# Altium schematic symbol library WE-PD.SchLib: 360 symbols (part 2 of 7)
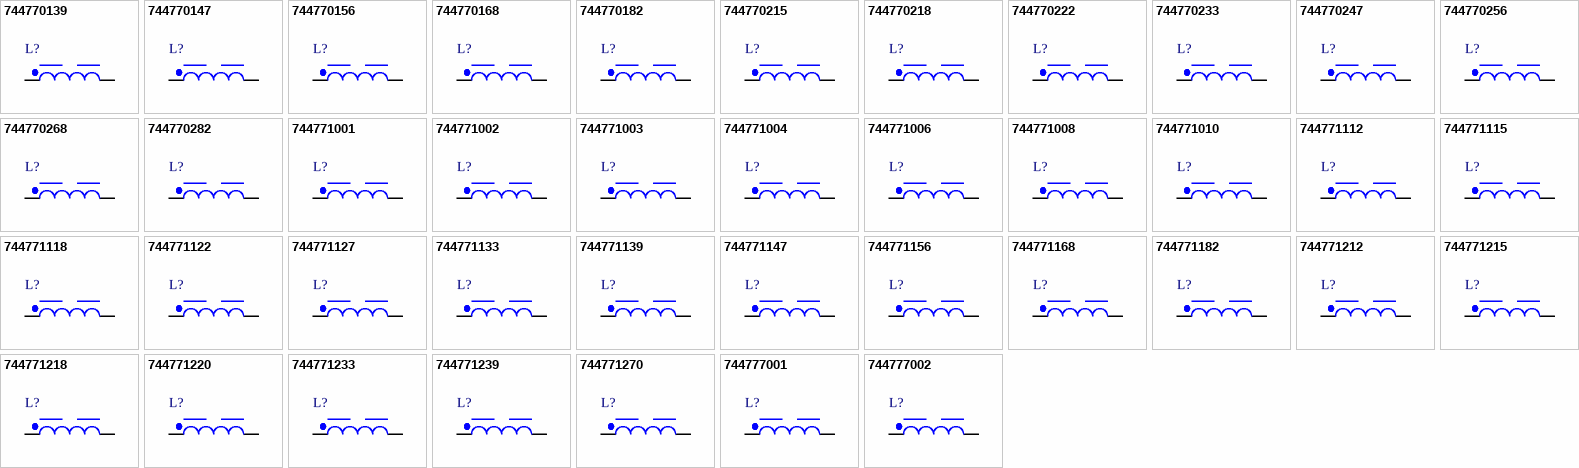
[diagram p9: symbols 744770139 to 744777002]

## 744771003
designator L?, comment 3.5 μH, 9.25 A  (value not drawn)
WE-PD SMT Power Inductor, size 1260, 3.5 μH, 9.25 A, 8 mΩ; Manufacturer Part Number: 744771003; Manufacturer: Wurth Elektronik; Case/Size Code: 1260; DC Resistance: 5.5 mΩ; DC Resistance Max: 8 mΩ; Inductance: 3.5 μH; Rated Current: 9.25 A; Saturation Current: 9.5 A; Self Resonant Frequency: 40 MHz; Type: Standard; Category: Power Inductors; Match Code: WE-PD; ComponentLink1Description: Website Link; ComponentLink1URL: https://www.we-online.com/redexpert/article/744771003?ad; ComponentLink2Description: Datasheet Link; ComponentLink2URL: https://www.we-online.com/redexpert/spec/744771003?ad; Mount: Surface Mount; Min Operating Temperature: -40 °C; Max Operating Temperature: 125 °C; Packaging: Tape and Reel; Length: 12 mm; Width: 12 mm; Height: 6 mm
footprint WE-PD_1260
simulation model 1260_744771003_3.5u
pins: 1, 2

## 744771004
designator L?, comment 4.7 μH, 8.25 A  (value not drawn)
WE-PD SMT Power Inductor, size 1260, 4.7 μH, 8.25 A, 11 mΩ; Manufacturer Part Number: 744771004; Manufacturer: Wurth Elektronik; Case/Size Code: 1260; DC Resistance: 8.5 mΩ; DC Resistance Max: 11 mΩ; Inductance: 4.7 μH; Rated Current: 8.25 A; Self Resonant Frequency: 35 MHz; Type: Standard; Category: Power Inductors; Match Code: WE-PD; ComponentLink1Description: Website Link; ComponentLink1URL: https://www.we-online.com/redexpert/article/744771004?ad; ComponentLink2Description: Datasheet Link; ComponentLink2URL: https://www.we-online.com/redexpert/spec/744771004?ad; Mount: Surface Mount; Min Operating Temperature: -40 °C; Max Operating Temperature: 125 °C; Packaging: Tape and Reel; Length: 12 mm; Width: 12 mm; Height: 6 mm; Saturation Current: 8.25 A
footprint WE-PD_1260
simulation model 1260_744771004_4.7u
pins: 1, 2

## 744771006
designator L?, comment 6.8 μH, 6.3 A  (value not drawn)
WE-PD SMT Power Inductor, size 1260, 6.8 μH, 6.3 A, 18 mΩ; Manufacturer Part Number: 744771006; Manufacturer: Wurth Elektronik; Case/Size Code: 1260; DC Resistance: 14 mΩ; DC Resistance Max: 18 mΩ; Inductance: 6.8 μH; Rated Current: 6.3 A; Saturation Current: 6.5 A; Self Resonant Frequency: 27 MHz; Type: Standard; Category: Power Inductors; Match Code: WE-PD; ComponentLink1Description: Website Link; ComponentLink1URL: https://www.we-online.com/redexpert/article/744771006?ad; ComponentLink2Description: Datasheet Link; ComponentLink2URL: https://www.we-online.com/redexpert/spec/744771006?ad; Mount: Surface Mount; Min Operating Temperature: -40 °C; Max Operating Temperature: 125 °C; Packaging: Tape and Reel; Length: 12 mm; Width: 12 mm; Height: 6 mm
footprint WE-PD_1260
simulation model 1260_744771006_6.8u
pins: 1, 2

## 744771008
designator L?, comment 8.2 μH, 6.2 A  (value not drawn)
WE-PD SMT Power Inductor, size 1260, 8.2 μH, 6.2 A, 20 mΩ; Manufacturer Part Number: 744771008; Manufacturer: Wurth Elektronik; Case/Size Code: 1260; DC Resistance: 15.5 mΩ; DC Resistance Max: 20 mΩ; Inductance: 8.2 μH; Rated Current: 6.2 A; Self Resonant Frequency: 25 MHz; Type: Standard; Category: Power Inductors; Match Code: WE-PD; ComponentLink1Description: Website Link; ComponentLink1URL: https://www.we-online.com/redexpert/article/744771008?ad; ComponentLink2Description: Datasheet Link; ComponentLink2URL: https://www.we-online.com/redexpert/spec/744771008?ad; Mount: Surface Mount; Min Operating Temperature: -40 °C; Max Operating Temperature: 125 °C; Packaging: Tape and Reel; Length: 12 mm; Width: 12 mm; Height: 6 mm; Saturation Current: 6.2 A
footprint WE-PD_1260
simulation model 1260_744771008_8.2u
pins: 1, 2

## 744771010
designator L?, comment 1 μH, 14 A  (value not drawn)
WE-PD SMT Power Inductor, size 1260, 1 μH, 14 A, 5 mΩ; Manufacturer Part Number: 744771010; Manufacturer: Wurth Elektronik; Case/Size Code: 1260; DC Resistance: 3 mΩ; DC Resistance Max: 5 mΩ; Inductance: 1 μH; Rated Current: 14 A; Saturation Current: 15.6 A; Self Resonant Frequency: 88 MHz; Category: Power Inductors; Match Code: WE-PD; ComponentLink1Description: Website Link; ComponentLink1URL: https://www.we-online.com/redexpert/article/744771010?ad; ComponentLink2Description: Datasheet Link; ComponentLink2URL: https://www.we-online.com/redexpert/spec/744771010?ad; Mount: Surface Mount; Min Operating Temperature: -40 °C; Max Operating Temperature: 125 °C; Packaging: Tape and Reel; Length: 12 mm; Width: 12 mm; Height: 6 mm
footprint WE-PD_1260
simulation model 1260_744771010_1u
pins: 1, 2

## 744771112
designator L?, comment 12 μH, 4.5 A  (value not drawn)
WE-PD SMT Power Inductor, size 1260, 12 μH, 4.5 A, 26 mΩ; Manufacturer Part Number: 744771112; Manufacturer: Wurth Elektronik; Case/Size Code: 1260; DC Resistance: 20 mΩ; DC Resistance Max: 26 mΩ; Inductance: 12 μH; Rated Current: 4.5 A; Saturation Current: 4.9 A; Self Resonant Frequency: 19.7 MHz; Type: Standard; Category: Power Inductors; Match Code: WE-PD; ComponentLink1Description: Website Link; ComponentLink1URL: https://www.we-online.com/redexpert/article/744771112?ad; ComponentLink2Description: Datasheet Link; ComponentLink2URL: https://www.we-online.com/redexpert/spec/744771112?ad; Mount: Surface Mount; Min Operating Temperature: -40 °C; Max Operating Temperature: 125 °C; Packaging: Tape and Reel; Length: 12 mm; Width: 12 mm; Height: 6 mm
footprint WE-PD_1260
simulation model 1260_744771112_12u
pins: 1, 2

## 744771115
designator L?, comment 15 μH, 4.2 A  (value not drawn)
WE-PD SMT Power Inductor, size 1260, 15 μH, 4.2 A, 28 mΩ; Manufacturer Part Number: 744771115; Manufacturer: Wurth Elektronik; Case/Size Code: 1260; DC Resistance: 22 mΩ; DC Resistance Max: 28 mΩ; Inductance: 15 μH; Rated Current: 4.2 A; Saturation Current: 4.5 A; Self Resonant Frequency: 16.6 MHz; Type: Standard; Category: Power Inductors; Match Code: WE-PD; ComponentLink1Description: Website Link; ComponentLink1URL: https://www.we-online.com/redexpert/article/744771115?ad; ComponentLink2Description: Datasheet Link; ComponentLink2URL: https://www.we-online.com/redexpert/spec/744771115?ad; Mount: Surface Mount; Min Operating Temperature: -40 °C; Max Operating Temperature: 125 °C; Packaging: Tape and Reel; Length: 12 mm; Width: 12 mm; Height: 6 mm
footprint WE-PD_1260
simulation model 1260_744771115_15u
pins: 1, 2

## 744771118
designator L?, comment 18 μH, 4 A  (value not drawn)
WE-PD SMT Power Inductor, size 1260, 18 μH, 4 A, 30 mΩ; Manufacturer Part Number: 744771118; Manufacturer: Wurth Elektronik; Case/Size Code: 1260; DC Resistance: 24 mΩ; DC Resistance Max: 30 mΩ; Inductance: 18 μH; Rated Current: 4 A; Saturation Current: 4.2 A; Self Resonant Frequency: 15 MHz; Type: Standard; Category: Power Inductors; Match Code: WE-PD; ComponentLink1Description: Website Link; ComponentLink1URL: https://www.we-online.com/redexpert/article/744771118?ad; ComponentLink2Description: Datasheet Link; ComponentLink2URL: https://www.we-online.com/redexpert/spec/744771118?ad; Mount: Surface Mount; Min Operating Temperature: -40 °C; Max Operating Temperature: 125 °C; Packaging: Tape and Reel; Length: 12 mm; Width: 12 mm; Height: 6 mm
footprint WE-PD_1260
simulation model 1260_744771118_18u
pins: 1, 2

## 744771122
designator L?, comment 22 μH, 3.5 A  (value not drawn)
WE-PD SMT Power Inductor, size 1260, 22 μH, 3.5 A, 36 mΩ; Manufacturer Part Number: 744771122; Manufacturer: Wurth Elektronik; Case/Size Code: 1260; DC Resistance: 30 mΩ; DC Resistance Max: 36 mΩ; Inductance: 22 μH; Rated Current: 3.5 A; Saturation Current: 3.7 A; Self Resonant Frequency: 13.5 MHz; Type: Standard; Category: Power Inductors; Match Code: WE-PD; ComponentLink1Description: Website Link; ComponentLink1URL: https://www.we-online.com/redexpert/article/744771122?ad; ComponentLink2Description: Datasheet Link; ComponentLink2URL: https://www.we-online.com/redexpert/spec/744771122?ad; Mount: Surface Mount; Min Operating Temperature: -40 °C; Max Operating Temperature: 125 °C; Packaging: Tape and Reel; Length: 12 mm; Width: 12 mm; Height: 6 mm
footprint WE-PD_1260
simulation model 1260_744771122_22u
pins: 1, 2

## 744771127
designator L?, comment 27 μH, 3.3 A  (value not drawn)
WE-PD SMT Power Inductor, size 1260, 27 μH, 3.3 A, 45 mΩ; Manufacturer Part Number: 744771127; Manufacturer: Wurth Elektronik; Case/Size Code: 1260; DC Resistance: 37 mΩ; DC Resistance Max: 45 mΩ; Inductance: 27 μH; Rated Current: 3.3 A; Saturation Current: 3.5 A; Self Resonant Frequency: 12 MHz; Type: Standard; Category: Power Inductors; Match Code: WE-PD; ComponentLink1Description: Website Link; ComponentLink1URL: https://www.we-online.com/redexpert/article/744771127?ad; ComponentLink2Description: Datasheet Link; ComponentLink2URL: https://www.we-online.com/redexpert/spec/744771127?ad; Mount: Surface Mount; Min Operating Temperature: -40 °C; Max Operating Temperature: 125 °C; Packaging: Tape and Reel; Length: 12 mm; Width: 12 mm; Height: 6 mm
footprint WE-PD_1260
simulation model 1260_744771127_27u
pins: 1, 2

## 744771133
designator L?, comment 33 μH, 2.8 A  (value not drawn)
WE-PD SMT Power Inductor, size 1260, 33 μH, 2.8 A, 57 mΩ; Manufacturer Part Number: 744771133; Manufacturer: Wurth Elektronik; Case/Size Code: 1260; DC Resistance: 49 mΩ; DC Resistance Max: 57 mΩ; Inductance: 33 μH; Rated Current: 2.8 A; Saturation Current: 3 A; Self Resonant Frequency: 11 MHz; Type: Standard; Category: Power Inductors; Match Code: WE-PD; ComponentLink1Description: Website Link; ComponentLink1URL: https://www.we-online.com/redexpert/article/744771133?ad; ComponentLink2Description: Datasheet Link; ComponentLink2URL: https://www.we-online.com/redexpert/spec/744771133?ad; Mount: Surface Mount; Min Operating Temperature: -40 °C; Max Operating Temperature: 125 °C; Packaging: Tape and Reel; Length: 12 mm; Width: 12 mm; Height: 6 mm
footprint WE-PD_1260
simulation model 1260_744771133_33u
pins: 1, 2

## 744771139
designator L?, comment 39 μH, 2.5 A  (value not drawn)
WE-PD SMT Power Inductor, size 1260, 39 μH, 2.5 A, 68 mΩ; Manufacturer Part Number: 744771139; Manufacturer: Wurth Elektronik; Case/Size Code: 1260; DC Resistance: 57 mΩ; DC Resistance Max: 68 mΩ; Inductance: 39 μH; Rated Current: 2.5 A; Saturation Current: 2.7 A; Self Resonant Frequency: 10 MHz; Type: Standard; Category: Power Inductors; Match Code: WE-PD; ComponentLink1Description: Website Link; ComponentLink1URL: https://www.we-online.com/redexpert/article/744771139?ad; ComponentLink2Description: Datasheet Link; ComponentLink2URL: https://www.we-online.com/redexpert/spec/744771139?ad; Mount: Surface Mount; Min Operating Temperature: -40 °C; Max Operating Temperature: 125 °C; Packaging: Tape and Reel; Length: 12 mm; Width: 12 mm; Height: 6 mm
footprint WE-PD_1260
simulation model 1260_744771139_39u
pins: 1, 2

## 744771147
designator L?, comment 47 μH, 2.4 A  (value not drawn)
WE-PD SMT Power Inductor, size 1260, 47 μH, 2.4 A, 77 mΩ; Manufacturer Part Number: 744771147; Manufacturer: Wurth Elektronik; Case/Size Code: 1260; DC Resistance: 64 mΩ; DC Resistance Max: 77 mΩ; Inductance: 47 μH; Rated Current: 2.4 A; Saturation Current: 2.6 A; Self Resonant Frequency: 9.2 MHz; Type: Standard; Category: Power Inductors; Match Code: WE-PD; ComponentLink1Description: Website Link; ComponentLink1URL: https://www.we-online.com/redexpert/article/744771147?ad; ComponentLink2Description: Datasheet Link; ComponentLink2URL: https://www.we-online.com/redexpert/spec/744771147?ad; Mount: Surface Mount; Min Operating Temperature: -40 °C; Max Operating Temperature: 125 °C; Packaging: Tape and Reel; Length: 12 mm; Width: 12 mm; Height: 6 mm
footprint WE-PD_1260
simulation model 1260_744771147_47u
pins: 1, 2

## 744771156
designator L?, comment 56 μH, 2.1 A  (value not drawn)
WE-PD SMT Power Inductor, size 1260, 56 μH, 2.1 A, 92 mΩ; Manufacturer Part Number: 744771156; Manufacturer: Wurth Elektronik; Case/Size Code: 1260; DC Resistance: 77 mΩ; DC Resistance Max: 92 mΩ; Inductance: 56 μH; Rated Current: 2.1 A; Saturation Current: 2.3 A; Self Resonant Frequency: 8 MHz; Type: Standard; Category: Power Inductors; Match Code: WE-PD; ComponentLink1Description: Website Link; ComponentLink1URL: https://www.we-online.com/redexpert/article/744771156?ad; ComponentLink2Description: Datasheet Link; ComponentLink2URL: https://www.we-online.com/redexpert/spec/744771156?ad; Mount: Surface Mount; Min Operating Temperature: -40 °C; Max Operating Temperature: 125 °C; Packaging: Tape and Reel; Length: 12 mm; Width: 12 mm; Height: 6 mm
footprint WE-PD_1260
simulation model 1260_744771156_56u
pins: 1, 2

## 744771168
designator L?, comment 68 μH, 2 A  (value not drawn)
WE-PD SMT Power Inductor, size 1260, 68 μH, 2 A, 105 mΩ; Manufacturer Part Number: 744771168; Manufacturer: Wurth Elektronik; Case/Size Code: 1260; DC Resistance: 86 mΩ; DC Resistance Max: 105 mΩ; Inductance: 68 μH; Rated Current: 2 A; Saturation Current: 2.2 A; Self Resonant Frequency: 7.6 MHz; Type: Standard; Category: Power Inductors; Match Code: WE-PD; ComponentLink1Description: Website Link; ComponentLink1URL: https://www.we-online.com/redexpert/article/744771168?ad; ComponentLink2Description: Datasheet Link; ComponentLink2URL: https://www.we-online.com/redexpert/spec/744771168?ad; Mount: Surface Mount; Min Operating Temperature: -40 °C; Max Operating Temperature: 125 °C; Packaging: Tape and Reel; Length: 12 mm; Width: 12 mm; Height: 6 mm
footprint WE-PD_1260
simulation model 1260_744771168_68u
pins: 1, 2

## 744771182
designator L?, comment 82 μH, 1.8 A  (value not drawn)
WE-PD SMT Power Inductor, size 1260, 82 μH, 1.8 A, 135 mΩ; Manufacturer Part Number: 744771182; Manufacturer: Wurth Elektronik; Case/Size Code: 1260; DC Resistance: 112 mΩ; DC Resistance Max: 135 mΩ; Inductance: 82 μH; Rated Current: 1.8 A; Saturation Current: 1.9 A; Self Resonant Frequency: 7.2 MHz; Type: Standard; Category: Power Inductors; Match Code: WE-PD; ComponentLink1Description: Website Link; ComponentLink1URL: https://www.we-online.com/redexpert/article/744771182?ad; ComponentLink2Description: Datasheet Link; ComponentLink2URL: https://www.we-online.com/redexpert/spec/744771182?ad; Mount: Surface Mount; Min Operating Temperature: -40 °C; Max Operating Temperature: 125 °C; Packaging: Tape and Reel; Length: 12 mm; Width: 12 mm; Height: 6 mm
footprint WE-PD_1260
simulation model 1260_744771182_82u
pins: 1, 2

## 744771212
designator L?, comment 120 μH, 1.5 A  (value not drawn)
WE-PD SMT Power Inductor, size 1260, 120 μH, 1.5 A, 180 mΩ; Manufacturer Part Number: 744771212; Manufacturer: Wurth Elektronik; Case/Size Code: 1260; DC Resistance: 150 mΩ; DC Resistance Max: 180 mΩ; Inductance: 120 μH; Rated Current: 1.5 A; Saturation Current: 1.6 A; Self Resonant Frequency: 5.2 MHz; Type: Standard; Category: Power Inductors; Match Code: WE-PD; ComponentLink1Description: Website Link; ComponentLink1URL: https://www.we-online.com/redexpert/article/744771212?ad; ComponentLink2Description: Datasheet Link; ComponentLink2URL: https://www.we-online.com/redexpert/spec/744771212?ad; Mount: Surface Mount; Min Operating Temperature: -40 °C; Max Operating Temperature: 125 °C; Packaging: Tape and Reel; Length: 12 mm; Width: 12 mm; Height: 6 mm
footprint WE-PD_1260
simulation model 1260_744771212_120u
pins: 1, 2

## 744771215
designator L?, comment 150 μH, 1.3 A  (value not drawn)
WE-PD SMT Power Inductor, size 1260, 150 μH, 1.3 A, 220 mΩ; Manufacturer Part Number: 744771215; Manufacturer: Wurth Elektronik; Case/Size Code: 1260; DC Resistance: 185 mΩ; DC Resistance Max: 220 mΩ; Inductance: 150 μH; Rated Current: 1.3 A; Saturation Current: 1.45 A; Self Resonant Frequency: 4.4 MHz; Type: Standard; Category: Power Inductors; Match Code: WE-PD; ComponentLink1Description: Website Link; ComponentLink1URL: https://www.we-online.com/redexpert/article/744771215?ad; ComponentLink2Description: Datasheet Link; ComponentLink2URL: https://www.we-online.com/redexpert/spec/744771215?ad; Mount: Surface Mount; Min Operating Temperature: -40 °C; Max Operating Temperature: 125 °C; Packaging: Tape and Reel; Length: 12 mm; Width: 12 mm; Height: 6 mm
footprint WE-PD_1260
simulation model 1260_744771215_150u
pins: 1, 2

## 744771218
designator L?, comment 180 μH, 1.15 A  (value not drawn)
WE-PD SMT Power Inductor, size 1260, 180 μH, 1.15 A, 280 mΩ; Manufacturer Part Number: 744771218; Manufacturer: Wurth Elektronik; Case/Size Code: 1260; DC Resistance: 230 mΩ; DC Resistance Max: 280 mΩ; Inductance: 180 μH; Rated Current: 1.15 A; Saturation Current: 1.25 A; Self Resonant Frequency: 4.1 MHz; Type: Standard; Category: Power Inductors; Match Code: WE-PD; ComponentLink1Description: Website Link; ComponentLink1URL: https://www.we-online.com/redexpert/article/744771218?ad; ComponentLink2Description: Datasheet Link; ComponentLink2URL: https://www.we-online.com/redexpert/spec/744771218?ad; Mount: Surface Mount; Min Operating Temperature: -40 °C; Max Operating Temperature: 125 °C; Packaging: Tape and Reel; Length: 12 mm; Width: 12 mm; Height: 6 mm
footprint WE-PD_1260
simulation model 1260_744771218_180u
pins: 1, 2

## 744771220
designator L?, comment 220 μH, 1.1 A  (value not drawn)
WE-PD SMT Power Inductor, size 1260, 220 μH, 1.1 A, 340 mΩ; Manufacturer Part Number: 744771220; Manufacturer: Wurth Elektronik; Case/Size Code: 1260; DC Resistance: 280 mΩ; DC Resistance Max: 340 mΩ; Inductance: 220 μH; Rated Current: 1.1 A; Saturation Current: 1.2 A; Self Resonant Frequency: 3.8 MHz; Type: Standard; Category: Power Inductors; Match Code: WE-PD; ComponentLink1Description: Website Link; ComponentLink1URL: https://www.we-online.com/redexpert/article/744771220?ad; ComponentLink2Description: Datasheet Link; ComponentLink2URL: https://www.we-online.com/redexpert/spec/744771220?ad; Mount: Surface Mount; Min Operating Temperature: -40 °C; Max Operating Temperature: 125 °C; Packaging: Tape and Reel; Length: 12 mm; Width: 12 mm; Height: 6 mm
footprint WE-PD_1260
simulation model 1260_744771220_220u
pins: 1, 2

## 744771233
designator L?, comment 330 μH, 0.85 A  (value not drawn)
WE-PD SMT Power Inductor, size 1260, 330 μH, 0.85 A, 490 mΩ; Manufacturer Part Number: 744771233; Manufacturer: Wurth Elektronik; Case/Size Code: 1260; DC Resistance: 410 mΩ; DC Resistance Max: 490 mΩ; Inductance: 330 μH; Rated Current: 0.85 A; Saturation Current: 0.97 A; Self Resonant Frequency: 3 MHz; Type: Standard; Category: Power Inductors; Match Code: WE-PD; ComponentLink1Description: Website Link; ComponentLink1URL: https://www.we-online.com/redexpert/article/744771233?ad; ComponentLink2Description: Datasheet Link; ComponentLink2URL: https://www.we-online.com/redexpert/spec/744771233?ad; Mount: Surface Mount; Min Operating Temperature: -40 °C; Max Operating Temperature: 125 °C; Packaging: Tape and Reel; Length: 12 mm; Width: 12 mm; Height: 6 mm
footprint WE-PD_1260
simulation model 1260_744771233_330u
pins: 1, 2

## 744771239
designator L?, comment 390 μH, 0.75 A  (value not drawn)
WE-PD SMT Power Inductor, size 1260, 390 μH, 0.75 A, 640 mΩ; Manufacturer Part Number: 744771239; Manufacturer: Wurth Elektronik; Case/Size Code: 1260; DC Resistance: 540 mΩ; DC Resistance Max: 640 mΩ; Inductance: 390 μH; Rated Current: 0.75 A; Saturation Current: 0.85 A; Self Resonant Frequency: 2.8 MHz; Type: Standard; Category: Power Inductors; Match Code: WE-PD; ComponentLink1Description: Website Link; ComponentLink1URL: https://www.we-online.com/redexpert/article/744771239?ad; ComponentLink2Description: Datasheet Link; ComponentLink2URL: https://www.we-online.com/redexpert/spec/744771239?ad; Mount: Surface Mount; Min Operating Temperature: -40 °C; Max Operating Temperature: 125 °C; Packaging: Tape and Reel; Length: 12 mm; Width: 12 mm; Height: 6 mm
footprint WE-PD_1260
simulation model 1260_744771239_390u
pins: 1, 2

## 744771270
designator L?, comment 270 μH, 0.9 A  (value not drawn)
WE-PD SMT Power Inductor, size 1260, 270 μH, 0.9 A, 400 mΩ; Manufacturer Part Number: 744771270; Manufacturer: Wurth Elektronik; Case/Size Code: 1260; DC Resistance: 330 mΩ; DC Resistance Max: 400 mΩ; Inductance: 270 μH; Rated Current: 0.9 A; Saturation Current: 1 A; Self Resonant Frequency: 3.4 MHz; Type: Standard; Category: Power Inductors; Match Code: WE-PD; ComponentLink1Description: Website Link; ComponentLink1URL: https://www.we-online.com/redexpert/article/744771270?ad; ComponentLink2Description: Datasheet Link; ComponentLink2URL: https://www.we-online.com/redexpert/spec/744771270?ad; Mount: Surface Mount; Min Operating Temperature: -40 °C; Max Operating Temperature: 125 °C; Packaging: Tape and Reel; Length: 12 mm; Width: 12 mm; Height: 6 mm
footprint WE-PD_1260
simulation model 1260_744771270_270u
pins: 1, 2

## 744777001
designator L?, comment 1 μH, 6.84 A  (value not drawn)
WE-PD SMT Power Inductor, size 7345, 1 μH, 6.84 A, 10 mΩ; Manufacturer Part Number: 744777001; Manufacturer: Wurth Elektronik; Case/Size Code: 7345; DC Resistance: 8.4 mΩ; DC Resistance Max: 10 mΩ; Inductance: 1 μH; Rated Current: 6.84 A; Saturation Current: 10.2 A; Self Resonant Frequency: 100 MHz; Type: Standard; Category: Power Inductors; Match Code: WE-PD; ComponentLink1Description: Website Link; ComponentLink1URL: https://www.we-online.com/redexpert/article/744777001?ad; ComponentLink2Description: Datasheet Link; ComponentLink2URL: https://www.we-online.com/redexpert/spec/744777001?ad; Mount: Surface Mount; Min Operating Temperature: -40 °C; Max Operating Temperature: 125 °C; Packaging: Tape and Reel; Length: 7.3 mm; Width: 7.3 mm; Height: 4.5 mm
footprint WE-PD_7345
simulation model 7345_744777001_1u
pins: 1, 2

## 744777002
designator L?, comment 2.2 μH, 6 A  (value not drawn)
WE-PD SMT Power Inductor, size 7345, 2.2 μH, 6 A, 20 mΩ; Manufacturer Part Number: 744777002; Manufacturer: Wurth Elektronik; Case/Size Code: 7345; DC Resistance: 13 mΩ; DC Resistance Max: 20 mΩ; Inductance: 2.2 μH; Rated Current: 6 A; Saturation Current: 6.5 A; Self Resonant Frequency: 60 MHz; Type: Standard; Category: Power Inductors; Match Code: WE-PD; ComponentLink1Description: Website Link; ComponentLink1URL: https://www.we-online.com/redexpert/article/744777002?ad; ComponentLink2Description: Datasheet Link; ComponentLink2URL: https://www.we-online.com/redexpert/spec/744777002?ad; Mount: Surface Mount; Min Operating Temperature: -40 °C; Max Operating Temperature: 125 °C; Packaging: Tape and Reel; Length: 7.3 mm; Width: 7.3 mm; Height: 4.5 mm
footprint WE-PD_7345
simulation model 7345_744777002_2.2u
pins: 1, 2

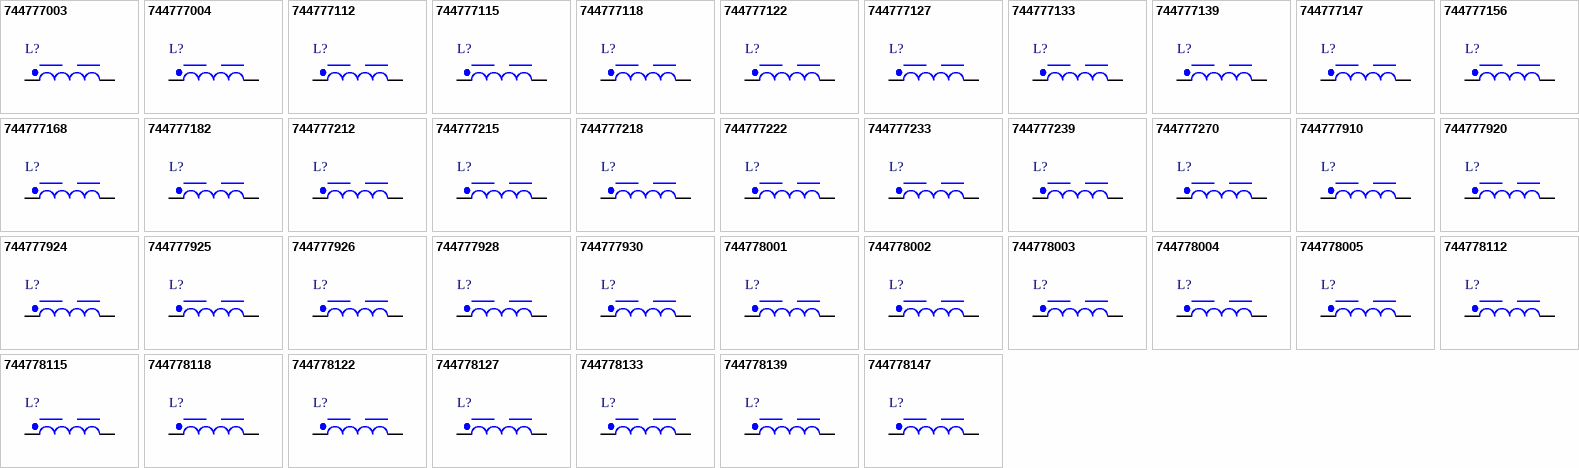
[diagram p2: symbols 744777003 to 744778147]

## 744777003
designator L?, comment 3.3 μH, 3.5 A  (value not drawn)
WE-PD SMT Power Inductor, size 7345, 3.3 μH, 3.5 A, 30 mΩ; Manufacturer Part Number: 744777003; Manufacturer: Wurth Elektronik; Case/Size Code: 7345; DC Resistance: 25 mΩ; DC Resistance Max: 30 mΩ; Inductance: 3.3 μH; Rated Current: 3.5 A; Saturation Current: 4.6 A; Self Resonant Frequency: 55 MHz; Type: Standard; Category: Power Inductors; Match Code: WE-PD; ComponentLink1Description: Website Link; ComponentLink1URL: https://www.we-online.com/redexpert/article/744777003?ad; ComponentLink2Description: Datasheet Link; ComponentLink2URL: https://www.we-online.com/redexpert/spec/744777003?ad; Mount: Surface Mount; Min Operating Temperature: -40 °C; Max Operating Temperature: 125 °C; Packaging: Tape and Reel; Length: 7.3 mm; Width: 7.3 mm; Height: 4.5 mm
footprint WE-PD_7345
simulation model 7345_744777003_3.3u
pins: 1, 2

## 744777004
designator L?, comment 4.7 μH, 3.2 A  (value not drawn)
WE-PD SMT Power Inductor, size 7345, 4.7 μH, 3.2 A, 40 mΩ; Manufacturer Part Number: 744777004; Manufacturer: Wurth Elektronik; Case/Size Code: 7345; DC Resistance: 25 mΩ; DC Resistance Max: 40 mΩ; Inductance: 4.7 μH; Rated Current: 3.2 A; Saturation Current: 4 A; Self Resonant Frequency: 37 MHz; Type: Standard; Category: Power Inductors; Match Code: WE-PD; ComponentLink1Description: Website Link; ComponentLink1URL: https://www.we-online.com/redexpert/article/744777004?ad; ComponentLink2Description: Datasheet Link; ComponentLink2URL: https://www.we-online.com/redexpert/spec/744777004?ad; Mount: Surface Mount; Min Operating Temperature: -40 °C; Max Operating Temperature: 125 °C; Packaging: Tape and Reel; Length: 7.3 mm; Width: 7.3 mm; Height: 4.5 mm
footprint WE-PD_7345
simulation model 7345_744777004_4.7u
pins: 1, 2

## 744777112
designator L?, comment 12 μH, 1.82 A  (value not drawn)
WE-PD SMT Power Inductor, size 7345, 12 μH, 1.82 A, 58 mΩ; Manufacturer Part Number: 744777112; Manufacturer: Wurth Elektronik; Case/Size Code: 7345; DC Resistance: 54 mΩ; DC Resistance Max: 58 mΩ; Inductance: 12 μH; Rated Current: 1.82 A; Saturation Current: 2.4 A; Self Resonant Frequency: 23 MHz; Type: Standard; Category: Power Inductors; Match Code: WE-PD; ComponentLink1Description: Website Link; ComponentLink1URL: https://www.we-online.com/redexpert/article/744777112?ad; ComponentLink2Description: Datasheet Link; ComponentLink2URL: https://www.we-online.com/redexpert/spec/744777112?ad; Mount: Surface Mount; Min Operating Temperature: -40 °C; Max Operating Temperature: 125 °C; Packaging: Tape and Reel; Length: 7.3 mm; Width: 7.3 mm; Height: 4.5 mm
footprint WE-PD_7345
simulation model 7345_744777112_12u
pins: 1, 2

## 744777115
designator L?, comment 15 μH, 1.6 A  (value not drawn)
WE-PD SMT Power Inductor, size 7345, 15 μH, 1.6 A, 81 mΩ; Manufacturer Part Number: 744777115; Manufacturer: Wurth Elektronik; Case/Size Code: 7345; DC Resistance: 70 mΩ; DC Resistance Max: 81 mΩ; Inductance: 15 μH; Rated Current: 1.6 A; Saturation Current: 2.2 A; Self Resonant Frequency: 19.5 MHz; Type: Standard; Category: Power Inductors; Match Code: WE-PD; ComponentLink1Description: Website Link; ComponentLink1URL: https://www.we-online.com/redexpert/article/744777115?ad; ComponentLink2Description: Datasheet Link; ComponentLink2URL: https://www.we-online.com/redexpert/spec/744777115?ad; Mount: Surface Mount; Min Operating Temperature: -40 °C; Max Operating Temperature: 125 °C; Packaging: Tape and Reel; Length: 7.3 mm; Width: 7.3 mm; Height: 4.5 mm
footprint WE-PD_7345
simulation model 7345_744777115_15u
pins: 1, 2

## 744777118
designator L?, comment 18 μH, 1.5 A  (value not drawn)
WE-PD SMT Power Inductor, size 7345, 18 μH, 1.5 A, 91 mΩ; Manufacturer Part Number: 744777118; Manufacturer: Wurth Elektronik; Case/Size Code: 7345; DC Resistance: 80 mΩ; DC Resistance Max: 91 mΩ; Inductance: 18 μH; Rated Current: 1.5 A; Saturation Current: 2.05 A; Self Resonant Frequency: 19 MHz; Type: Standard; Category: Power Inductors; Match Code: WE-PD; ComponentLink1Description: Website Link; ComponentLink1URL: https://www.we-online.com/redexpert/article/744777118?ad; ComponentLink2Description: Datasheet Link; ComponentLink2URL: https://www.we-online.com/redexpert/spec/744777118?ad; Mount: Surface Mount; Min Operating Temperature: -40 °C; Max Operating Temperature: 125 °C; Packaging: Tape and Reel; Length: 7.3 mm; Width: 7.3 mm; Height: 4.5 mm
footprint WE-PD_7345
simulation model 7345_744777118_18u
pins: 1, 2

## 744777122
designator L?, comment 22 μH, 1.41 A  (value not drawn)
WE-PD SMT Power Inductor, size 7345, 22 μH, 1.41 A, 110 mΩ; Manufacturer Part Number: 744777122; Manufacturer: Wurth Elektronik; Case/Size Code: 7345; DC Resistance: 90 mΩ; DC Resistance Max: 110 mΩ; Inductance: 22 μH; Rated Current: 1.41 A; Saturation Current: 1.7 A; Self Resonant Frequency: 17 MHz; Type: Standard; Category: Power Inductors; Match Code: WE-PD; ComponentLink1Description: Website Link; ComponentLink1URL: https://www.we-online.com/redexpert/article/744777122?ad; ComponentLink2Description: Datasheet Link; ComponentLink2URL: https://www.we-online.com/redexpert/spec/744777122?ad; Mount: Surface Mount; Min Operating Temperature: -40 °C; Max Operating Temperature: 125 °C; Packaging: Tape and Reel; Length: 7.3 mm; Width: 7.3 mm; Height: 4.5 mm
footprint WE-PD_7345
simulation model 7345_744777122_22u
pins: 1, 2

## 744777127
designator L?, comment 27 μH, 1.24 A  (value not drawn)
WE-PD SMT Power Inductor, size 7345, 27 μH, 1.24 A, 150 mΩ; Manufacturer Part Number: 744777127; Manufacturer: Wurth Elektronik; Case/Size Code: 7345; DC Resistance: 117 mΩ; DC Resistance Max: 150 mΩ; Inductance: 27 μH; Rated Current: 1.24 A; Saturation Current: 1.55 A; Self Resonant Frequency: 15 MHz; Type: Standard; Category: Power Inductors; Match Code: WE-PD; ComponentLink1Description: Website Link; ComponentLink1URL: https://www.we-online.com/redexpert/article/744777127?ad; ComponentLink2Description: Datasheet Link; ComponentLink2URL: https://www.we-online.com/redexpert/spec/744777127?ad; Mount: Surface Mount; Min Operating Temperature: -40 °C; Max Operating Temperature: 125 °C; Packaging: Tape and Reel; Length: 7.3 mm; Width: 7.3 mm; Height: 4.5 mm
footprint WE-PD_7345
simulation model 7345_744777127_27u
pins: 1, 2

## 744777133
designator L?, comment 33 μH, 1.13 A  (value not drawn)
WE-PD SMT Power Inductor, size 7345, 33 μH, 1.13 A, 170 mΩ; Manufacturer Part Number: 744777133; Manufacturer: Wurth Elektronik; Case/Size Code: 7345; DC Resistance: 140 mΩ; DC Resistance Max: 170 mΩ; Inductance: 33 μH; Rated Current: 1.13 A; Saturation Current: 1.4 A; Self Resonant Frequency: 13 MHz; Type: Standard; Category: Power Inductors; Match Code: WE-PD; ComponentLink1Description: Website Link; ComponentLink1URL: https://www.we-online.com/redexpert/article/744777133?ad; ComponentLink2Description: Datasheet Link; ComponentLink2URL: https://www.we-online.com/redexpert/spec/744777133?ad; Mount: Surface Mount; Min Operating Temperature: -40 °C; Max Operating Temperature: 125 °C; Packaging: Tape and Reel; Length: 7.3 mm; Width: 7.3 mm; Height: 4.5 mm
footprint WE-PD_7345
simulation model 7345_744777133_33u
pins: 1, 2

## 744777139
designator L?, comment 39 μH, 1.11 A  (value not drawn)
WE-PD SMT Power Inductor, size 7345, 39 μH, 1.11 A, 230 mΩ; Manufacturer Part Number: 744777139; Manufacturer: Wurth Elektronik; Case/Size Code: 7345; DC Resistance: 145 mΩ; DC Resistance Max: 230 mΩ; Inductance: 39 μH; Rated Current: 1.11 A; Saturation Current: 1.23 A; Self Resonant Frequency: 12 MHz; Type: Standard; Category: Power Inductors; Match Code: WE-PD; ComponentLink1Description: Website Link; ComponentLink1URL: https://www.we-online.com/redexpert/article/744777139?ad; ComponentLink2Description: Datasheet Link; ComponentLink2URL: https://www.we-online.com/redexpert/spec/744777139?ad; Mount: Surface Mount; Min Operating Temperature: -40 °C; Max Operating Temperature: 125 °C; Packaging: Tape and Reel; Length: 7.3 mm; Width: 7.3 mm; Height: 4.5 mm
footprint WE-PD_7345
simulation model 7345_744777139_39u
pins: 1, 2

## 744777147
designator L?, comment 47 μH, 1.03 A  (value not drawn)
WE-PD SMT Power Inductor, size 7345, 47 μH, 1.03 A, 260 mΩ; Manufacturer Part Number: 744777147; Manufacturer: Wurth Elektronik; Case/Size Code: 7345; DC Resistance: 170 mΩ; DC Resistance Max: 260 mΩ; Inductance: 47 μH; Rated Current: 1.03 A; Saturation Current: 1.1 A; Self Resonant Frequency: 10.5 MHz; Type: Standard; Category: Power Inductors; Match Code: WE-PD; ComponentLink1Description: Website Link; ComponentLink1URL: https://www.we-online.com/redexpert/article/744777147?ad; ComponentLink2Description: Datasheet Link; ComponentLink2URL: https://www.we-online.com/redexpert/spec/744777147?ad; Mount: Surface Mount; Min Operating Temperature: -40 °C; Max Operating Temperature: 125 °C; Packaging: Tape and Reel; Length: 7.3 mm; Width: 7.3 mm; Height: 4.5 mm
footprint WE-PD_7345
simulation model 7345_744777147_47u
pins: 1, 2

## 744777156
designator L?, comment 56 μH, 0.93 A  (value not drawn)
WE-PD SMT Power Inductor, size 7345, 56 μH, 0.93 A, 350 mΩ; Manufacturer Part Number: 744777156; Manufacturer: Wurth Elektronik; Case/Size Code: 7345; DC Resistance: 210 mΩ; DC Resistance Max: 350 mΩ; Inductance: 56 μH; Rated Current: 0.93 A; Saturation Current: 1.05 A; Self Resonant Frequency: 10 MHz; Type: Standard; Category: Power Inductors; Match Code: WE-PD; ComponentLink1Description: Website Link; ComponentLink1URL: https://www.we-online.com/redexpert/article/744777156?ad; ComponentLink2Description: Datasheet Link; ComponentLink2URL: https://www.we-online.com/redexpert/spec/744777156?ad; Mount: Surface Mount; Min Operating Temperature: -40 °C; Max Operating Temperature: 125 °C; Packaging: Tape and Reel; Length: 7.3 mm; Width: 7.3 mm; Height: 4.5 mm
footprint WE-PD_7345
simulation model 7345_744777156_56u
pins: 1, 2

## 744777168
designator L?, comment 68 μH, 0.87 A  (value not drawn)
WE-PD SMT Power Inductor, size 7345, 68 μH, 0.87 A, 380 mΩ; Manufacturer Part Number: 744777168; Manufacturer: Wurth Elektronik; Case/Size Code: 7345; DC Resistance: 240 mΩ; DC Resistance Max: 380 mΩ; Inductance: 68 μH; Rated Current: 0.87 A; Saturation Current: 0.95 A; Self Resonant Frequency: 9 MHz; Type: Standard; Category: Power Inductors; Match Code: WE-PD; ComponentLink1Description: Website Link; ComponentLink1URL: https://www.we-online.com/redexpert/article/744777168?ad; ComponentLink2Description: Datasheet Link; ComponentLink2URL: https://www.we-online.com/redexpert/spec/744777168?ad; Mount: Surface Mount; Min Operating Temperature: -40 °C; Max Operating Temperature: 125 °C; Packaging: Tape and Reel; Length: 7.3 mm; Width: 7.3 mm; Height: 4.5 mm
footprint WE-PD_7345
simulation model 7345_744777168_68u
pins: 1, 2

## 744777182
designator L?, comment 82 μH, 0.84 A  (value not drawn)
WE-PD SMT Power Inductor, size 7345, 82 μH, 0.84 A, 430 mΩ; Manufacturer Part Number: 744777182; Manufacturer: Wurth Elektronik; Case/Size Code: 7345; DC Resistance: 260 mΩ; DC Resistance Max: 430 mΩ; Inductance: 82 μH; Rated Current: 0.84 A; Saturation Current: 0.9 A; Self Resonant Frequency: 8 MHz; Type: Standard; Category: Power Inductors; Match Code: WE-PD; ComponentLink1Description: Website Link; ComponentLink1URL: https://www.we-online.com/redexpert/article/744777182?ad; ComponentLink2Description: Datasheet Link; ComponentLink2URL: https://www.we-online.com/redexpert/spec/744777182?ad; Mount: Surface Mount; Min Operating Temperature: -40 °C; Max Operating Temperature: 125 °C; Packaging: Tape and Reel; Length: 7.3 mm; Width: 7.3 mm; Height: 4.5 mm
footprint WE-PD_7345
simulation model 7345_744777182_82u
pins: 1, 2

## 744777212
designator L?, comment 120 μH, 0.67 A  (value not drawn)
WE-PD SMT Power Inductor, size 7345, 120 μH, 0.67 A, 660 mΩ; Manufacturer Part Number: 744777212; Manufacturer: Wurth Elektronik; Case/Size Code: 7345; DC Resistance: 400 mΩ; DC Resistance Max: 660 mΩ; Inductance: 120 μH; Rated Current: 0.67 A; Saturation Current: 0.7 A; Self Resonant Frequency: 6.7 MHz; Type: Standard; Category: Power Inductors; Match Code: WE-PD; ComponentLink1Description: Website Link; ComponentLink1URL: https://www.we-online.com/redexpert/article/744777212?ad; ComponentLink2Description: Datasheet Link; ComponentLink2URL: https://www.we-online.com/redexpert/spec/744777212?ad; Mount: Surface Mount; Min Operating Temperature: -40 °C; Max Operating Temperature: 125 °C; Packaging: Tape and Reel; Length: 7.3 mm; Width: 7.3 mm; Height: 4.5 mm
footprint WE-PD_7345
simulation model 7345_744777212_120u
pins: 1, 2

## 744777215
designator L?, comment 150 μH, 0.52 A  (value not drawn)
WE-PD SMT Power Inductor, size 7345, 150 μH, 0.52 A, 880 mΩ; Manufacturer Part Number: 744777215; Manufacturer: Wurth Elektronik; Case/Size Code: 7345; DC Resistance: 660 mΩ; DC Resistance Max: 880 mΩ; Inductance: 150 μH; Rated Current: 0.52 A; Saturation Current: 0.63 A; Self Resonant Frequency: 6 MHz; Type: Standard; Category: Power Inductors; Match Code: WE-PD; ComponentLink1Description: Website Link; ComponentLink1URL: https://www.we-online.com/redexpert/article/744777215?ad; ComponentLink2Description: Datasheet Link; ComponentLink2URL: https://www.we-online.com/redexpert/spec/744777215?ad; Mount: Surface Mount; Min Operating Temperature: -40 °C; Max Operating Temperature: 125 °C; Packaging: Tape and Reel; Length: 7.3 mm; Width: 7.3 mm; Height: 4.5 mm
footprint WE-PD_7345
simulation model 7345_744777215_150u
pins: 1, 2

## 744777218
designator L?, comment 180 μH, 0.51 A  (value not drawn)
WE-PD SMT Power Inductor, size 7345, 180 μH, 0.51 A, 980 mΩ; Manufacturer Part Number: 744777218; Manufacturer: Wurth Elektronik; Case/Size Code: 7345; DC Resistance: 680 mΩ; DC Resistance Max: 980 mΩ; Inductance: 180 μH; Rated Current: 0.51 A; Saturation Current: 0.56 A; Self Resonant Frequency: 5.3 MHz; Type: Standard; Category: Power Inductors; Match Code: WE-PD; ComponentLink1Description: Website Link; ComponentLink1URL: https://www.we-online.com/redexpert/article/744777218?ad; ComponentLink2Description: Datasheet Link; ComponentLink2URL: https://www.we-online.com/redexpert/spec/744777218?ad; Mount: Surface Mount; Min Operating Temperature: -40 °C; Max Operating Temperature: 125 °C; Packaging: Tape and Reel; Length: 7.3 mm; Width: 7.3 mm; Height: 4.5 mm
footprint WE-PD_7345
simulation model 7345_744777218_180u
pins: 1, 2

## 744777222
designator L?, comment 220 μH, 0.44 A  (value not drawn)
WE-PD SMT Power Inductor, size 7345, 220 μH, 0.44 A, 1170 mΩ; Manufacturer Part Number: 744777222; Manufacturer: Wurth Elektronik; Case/Size Code: 7345; DC Resistance: 920 mΩ; DC Resistance Max: 1170 mΩ; Inductance: 220 μH; Rated Current: 0.44 A; Saturation Current: 0.54 A; Self Resonant Frequency: 5 MHz; Type: Standard; Category: Power Inductors; Match Code: WE-PD; ComponentLink1Description: Website Link; ComponentLink1URL: https://www.we-online.com/redexpert/article/744777222?ad; ComponentLink2Description: Datasheet Link; ComponentLink2URL: https://www.we-online.com/redexpert/spec/744777222?ad; Mount: Surface Mount; Min Operating Temperature: -40 °C; Max Operating Temperature: 125 °C; Packaging: Tape and Reel; Length: 7.3 mm; Width: 7.3 mm; Height: 4.5 mm
footprint WE-PD_7345
simulation model 7345_744777222_220u
pins: 1, 2

## 744777233
designator L?, comment 330 μH, 0.39 A  (value not drawn)
WE-PD SMT Power Inductor, size 7345, 330 μH, 0.39 A, 1860 mΩ; Manufacturer Part Number: 744777233; Manufacturer: Wurth Elektronik; Case/Size Code: 7345; DC Resistance: 1150 mΩ; DC Resistance Max: 1860 mΩ; Inductance: 330 μH; Rated Current: 0.39 A; Saturation Current: 0.45 A; Self Resonant Frequency: 4 MHz; Type: Standard; Category: Power Inductors; Match Code: WE-PD; ComponentLink1Description: Website Link; ComponentLink1URL: https://www.we-online.com/redexpert/article/744777233?ad; ComponentLink2Description: Datasheet Link; ComponentLink2URL: https://www.we-online.com/redexpert/spec/744777233?ad; Mount: Surface Mount; Min Operating Temperature: -40 °C; Max Operating Temperature: 125 °C; Packaging: Tape and Reel; Length: 7.3 mm; Width: 7.3 mm; Height: 4.5 mm
footprint WE-PD_7345
simulation model 7345_744777233_330u
pins: 1, 2

## 744777239
designator L?, comment 390 μH, 0.38 A  (value not drawn)
WE-PD SMT Power Inductor, size 7345, 390 μH, 0.38 A, 2850 mΩ; Manufacturer Part Number: 744777239; Manufacturer: Wurth Elektronik; Case/Size Code: 7345; DC Resistance: 1250 mΩ; DC Resistance Max: 2850 mΩ; Inductance: 390 μH; Rated Current: 0.38 A; Saturation Current: 0.42 A; Self Resonant Frequency: 3.8 MHz; Type: Standard; Category: Power Inductors; Match Code: WE-PD; ComponentLink1Description: Website Link; ComponentLink1URL: https://www.we-online.com/redexpert/article/744777239?ad; ComponentLink2Description: Datasheet Link; ComponentLink2URL: https://www.we-online.com/redexpert/spec/744777239?ad; Mount: Surface Mount; Min Operating Temperature: -40 °C; Max Operating Temperature: 125 °C; Packaging: Tape and Reel; Length: 7.3 mm; Width: 7.3 mm; Height: 4.5 mm
footprint WE-PD_7345
simulation model 7345_744777239_390u
pins: 1, 2

## 744777270
designator L?, comment 270 μH, 0.43 A  (value not drawn)
WE-PD SMT Power Inductor, size 7345, 270 μH, 0.43 A, 1640 mΩ; Manufacturer Part Number: 744777270; Manufacturer: Wurth Elektronik; Case/Size Code: 7345; DC Resistance: 970 mΩ; DC Resistance Max: 1640 mΩ; Inductance: 270 μH; Rated Current: 0.43 A; Saturation Current: 0.48 A; Self Resonant Frequency: 4.3 MHz; Type: Standard; Category: Power Inductors; Match Code: WE-PD; ComponentLink1Description: Website Link; ComponentLink1URL: https://www.we-online.com/redexpert/article/744777270?ad; ComponentLink2Description: Datasheet Link; ComponentLink2URL: https://www.we-online.com/redexpert/spec/744777270?ad; Mount: Surface Mount; Min Operating Temperature: -40 °C; Max Operating Temperature: 125 °C; Packaging: Tape and Reel; Length: 7.3 mm; Width: 7.3 mm; Height: 4.5 mm
footprint WE-PD_7345
simulation model 7345_744777270_270u
pins: 1, 2

## 744777910
designator L?, comment 10 μH, 2 A  (value not drawn)
WE-PD SMT Power Inductor, size 7345R, 10 μH, 2 A, 49 mΩ; Manufacturer Part Number: 744777910; Manufacturer: Wurth Elektronik; DC Resistance: 45 mΩ; DC Resistance Max: 49 mΩ; Inductance: 10 μH; Rated Current: 2 A; Saturation Current: 2.6 A; Self Resonant Frequency: 26 MHz; Type: Robust; Category: Power Inductors; Match Code: WE-PD; ComponentLink1Description: Website Link; ComponentLink1URL: https://www.we-online.com/redexpert/article/744777910?ad; ComponentLink2Description: Datasheet Link; ComponentLink2URL: https://www.we-online.com/redexpert/spec/744777910?ad; Mount: Surface Mount; Min Operating Temperature: -40 °C; Max Operating Temperature: 125 °C; Packaging: Tape and Reel; Case/Size Code: 7345R; Length: 7.3 mm; Width: 7.3 mm; Height: 4.5 mm
footprint WE-PD_7345R
simulation model 7345_744777910_10u
pins: 1, 2

## 744777920
designator L?, comment 100 μH, 0.79 A  (value not drawn)
WE-PD SMT Power Inductor, size 7345R, 100 μH, 0.79 A, 380 mΩ; Manufacturer Part Number: 744777920; Manufacturer: Wurth Elektronik; DC Resistance: 290 mΩ; DC Resistance Max: 380 mΩ; Inductance: 100 μH; Rated Current: 0.79 A; Saturation Current: 0.75 A; Self Resonant Frequency: 7.5 MHz; Type: Robust; Category: Power Inductors; Match Code: WE-PD; ComponentLink1Description: Website Link; ComponentLink1URL: https://www.we-online.com/redexpert/article/744777920?ad; ComponentLink2Description: Datasheet Link; ComponentLink2URL: https://www.we-online.com/redexpert/spec/744777920?ad; Mount: Surface Mount; Min Operating Temperature: -40 °C; Max Operating Temperature: 125 °C; Packaging: Tape and Reel; Case/Size Code: 7345R; Length: 7.3 mm; Width: 7.3 mm; Height: 4.5 mm
footprint WE-PD_7345R
simulation model 7345_744777920_100u
pins: 1, 2

## 744777924
designator L?, comment 470 μH, 0.29 A  (value not drawn)
WE-PD SMT Power Inductor, size 7345R, 470 μH, 0.29 A, 3010 mΩ; Manufacturer Part Number: 744777924; Manufacturer: Wurth Elektronik; DC Resistance: 1600 mΩ; DC Resistance Max: 3010 mΩ; Inductance: 470 μH; Rated Current: 0.29 A; Saturation Current: 0.34 A; Self Resonant Frequency: 3.2 MHz; Type: Robust; Category: Power Inductors; Match Code: WE-PD; ComponentLink1Description: Website Link; ComponentLink1URL: https://www.we-online.com/redexpert/article/744777924?ad; ComponentLink2Description: Datasheet Link; ComponentLink2URL: https://www.we-online.com/redexpert/spec/744777924?ad; Mount: Surface Mount; Min Operating Temperature: -40 °C; Max Operating Temperature: 125 °C; Packaging: Tape and Reel; Case/Size Code: 7345R; Length: 7.3 mm; Width: 7.3 mm; Height: 4.5 mm
footprint WE-PD_7345R
simulation model 7345_744777924_470u
pins: 1, 2

## 744777925
designator L?, comment 560 μH, 0.28 A  (value not drawn)
WE-PD SMT Power Inductor, size 7345R, 560 μH, 0.28 A, 3620 mΩ; Manufacturer Part Number: 744777925; Manufacturer: Wurth Elektronik; DC Resistance: 1720 mΩ; DC Resistance Max: 3620 mΩ; Inductance: 560 μH; Rated Current: 0.28 A; Saturation Current: 0.31 A; Self Resonant Frequency: 3 MHz; Type: Robust; Category: Power Inductors; Match Code: WE-PD; ComponentLink1Description: Website Link; ComponentLink1URL: https://www.we-online.com/redexpert/article/744777925?ad; ComponentLink2Description: Datasheet Link; ComponentLink2URL: https://www.we-online.com/redexpert/spec/744777925?ad; Mount: Surface Mount; Min Operating Temperature: -40 °C; Max Operating Temperature: 125 °C; Packaging: Tape and Reel; Case/Size Code: 7345R; Length: 7.3 mm; Width: 7.3 mm; Height: 4.5 mm
footprint WE-PD_7345R
simulation model 7345_744777925_560u
pins: 1, 2

## 744777926
designator L?, comment 680 μH, 0.23 A  (value not drawn)
WE-PD SMT Power Inductor, size 7345R, 680 μH, 0.23 A, 4630 mΩ; Manufacturer Part Number: 744777926; Manufacturer: Wurth Elektronik; DC Resistance: 2600 mΩ; DC Resistance Max: 4630 mΩ; Inductance: 680 μH; Rated Current: 0.23 A; Saturation Current: 0.28 A; Self Resonant Frequency: 2.7 MHz; Type: Robust; Category: Power Inductors; Match Code: WE-PD; ComponentLink1Description: Website Link; ComponentLink1URL: https://www.we-online.com/redexpert/article/744777926?ad; ComponentLink2Description: Datasheet Link; ComponentLink2URL: https://www.we-online.com/redexpert/spec/744777926?ad; Mount: Surface Mount; Min Operating Temperature: -40 °C; Max Operating Temperature: 125 °C; Packaging: Tape and Reel; Case/Size Code: 7345R; Length: 7.3 mm; Width: 7.3 mm; Height: 4.5 mm
footprint WE-PD_7345R
simulation model 7345_744777926_680u
pins: 1, 2

## 744777928
designator L?, comment 820 μH, 0.21 A  (value not drawn)
WE-PD SMT Power Inductor, size 7345R, 820 μH, 0.21 A, 5200 mΩ; Manufacturer Part Number: 744777928; Manufacturer: Wurth Elektronik; DC Resistance: 2960 mΩ; DC Resistance Max: 5200 mΩ; Inductance: 820 μH; Rated Current: 0.21 A; Saturation Current: 0.26 A; Self Resonant Frequency: 2.5 MHz; Type: Robust; Category: Power Inductors; Match Code: WE-PD; ComponentLink1Description: Website Link; ComponentLink1URL: https://www.we-online.com/redexpert/article/744777928?ad; ComponentLink2Description: Datasheet Link; ComponentLink2URL: https://www.we-online.com/redexpert/spec/744777928?ad; Mount: Surface Mount; Min Operating Temperature: -40 °C; Max Operating Temperature: 125 °C; Packaging: Tape and Reel; Case/Size Code: 7345R; Length: 7.3 mm; Width: 7.3 mm; Height: 4.5 mm
footprint WE-PD_7345R
simulation model 7345_744777928_820u
pins: 1, 2

## 744777930
designator L?, comment 1000 μH, 0.2 A  (value not drawn)
WE-PD SMT Power Inductor, size 7345R, 1000 μH, 0.2 A, 6000 mΩ; Manufacturer Part Number: 744777930; Manufacturer: Wurth Elektronik; DC Resistance: 3270 mΩ; DC Resistance Max: 6000 mΩ; Inductance: 1000 μH; Rated Current: 0.2 A; Saturation Current: 0.25 A; Self Resonant Frequency: 2.2 MHz; Type: Robust; Category: Power Inductors; Match Code: WE-PD; ComponentLink1Description: Website Link; ComponentLink1URL: https://www.we-online.com/redexpert/article/744777930?ad; ComponentLink2Description: Datasheet Link; ComponentLink2URL: https://www.we-online.com/redexpert/spec/744777930?ad; Mount: Surface Mount; Min Operating Temperature: -40 °C; Max Operating Temperature: 125 °C; Packaging: Tape and Reel; Case/Size Code: 7345R; Length: 7.3 mm; Width: 7.3 mm; Height: 4.5 mm
footprint WE-PD_7345R
simulation model 7345_744777930_1000u
pins: 1, 2

## 744778001
designator L?, comment 1 μH, 5.37 A  (value not drawn)
WE-PD SMT Power Inductor, size 7332, 1 μH, 5.37 A, 12 mΩ; Manufacturer Part Number: 744778001; Manufacturer: Wurth Elektronik; Case/Size Code: 7332; DC Resistance: 9 mΩ; DC Resistance Max: 12 mΩ; Inductance: 1 μH; Rated Current: 5.37 A; Saturation Current: 6.4 A; Self Resonant Frequency: 115 MHz; Type: Standard; Category: Power Inductors; Match Code: WE-PD; ComponentLink1Description: Website Link; ComponentLink1URL: https://www.we-online.com/redexpert/article/744778001?ad; ComponentLink2Description: Datasheet Link; ComponentLink2URL: https://www.we-online.com/redexpert/spec/744778001?ad; Mount: Surface Mount; Min Operating Temperature: -40 °C; Max Operating Temperature: 125 °C; Packaging: Tape and Reel; Length: 7.3 mm; Width: 7.3 mm; Height: 3.2 mm
footprint WE-PD_7332
simulation model 7332_744778001_1u
pins: 1, 2

## 744778002
designator L?, comment 2.2 μH, 4.02 A  (value not drawn)
WE-PD SMT Power Inductor, size 7332, 2.2 μH, 4.02 A, 20 mΩ; Manufacturer Part Number: 744778002; Manufacturer: Wurth Elektronik; Case/Size Code: 7332; DC Resistance: 14 mΩ; DC Resistance Max: 20 mΩ; Inductance: 2.2 μH; Rated Current: 4.02 A; Saturation Current: 4.8 A; Self Resonant Frequency: 67 MHz; Type: Standard; Category: Power Inductors; Match Code: WE-PD; ComponentLink1Description: Website Link; ComponentLink1URL: https://www.we-online.com/redexpert/article/744778002?ad; ComponentLink2Description: Datasheet Link; ComponentLink2URL: https://www.we-online.com/redexpert/spec/744778002?ad; Mount: Surface Mount; Min Operating Temperature: -40 °C; Max Operating Temperature: 125 °C; Packaging: Tape and Reel; Length: 7.3 mm; Width: 7.3 mm; Height: 3.2 mm
footprint WE-PD_7332
simulation model 7332_744778002_2.2u
pins: 1, 2

## 744778003
designator L?, comment 3.3 μH, 3.1 A  (value not drawn)
WE-PD SMT Power Inductor, size 7332, 3.3 μH, 3.1 A, 32 mΩ; Manufacturer Part Number: 744778003; Manufacturer: Wurth Elektronik; Case/Size Code: 7332; DC Resistance: 24 mΩ; DC Resistance Max: 32 mΩ; Inductance: 3.3 μH; Rated Current: 3.1 A; Saturation Current: 4.1 A; Self Resonant Frequency: 61 MHz; Type: Standard; Category: Power Inductors; Match Code: WE-PD; ComponentLink1Description: Website Link; ComponentLink1URL: https://www.we-online.com/redexpert/article/744778003?ad; ComponentLink2Description: Datasheet Link; ComponentLink2URL: https://www.we-online.com/redexpert/spec/744778003?ad; Mount: Surface Mount; Min Operating Temperature: -40 °C; Max Operating Temperature: 125 °C; Packaging: Tape and Reel; Length: 7.3 mm; Width: 7.3 mm; Height: 3.2 mm
footprint WE-PD_7332
simulation model 7332_744778003_3.3u
pins: 1, 2